# Altium integrated library Quartz crystals.IntLib: 46 symbols
Pins are listed as number, name and electrical type; pins without a type are passive.

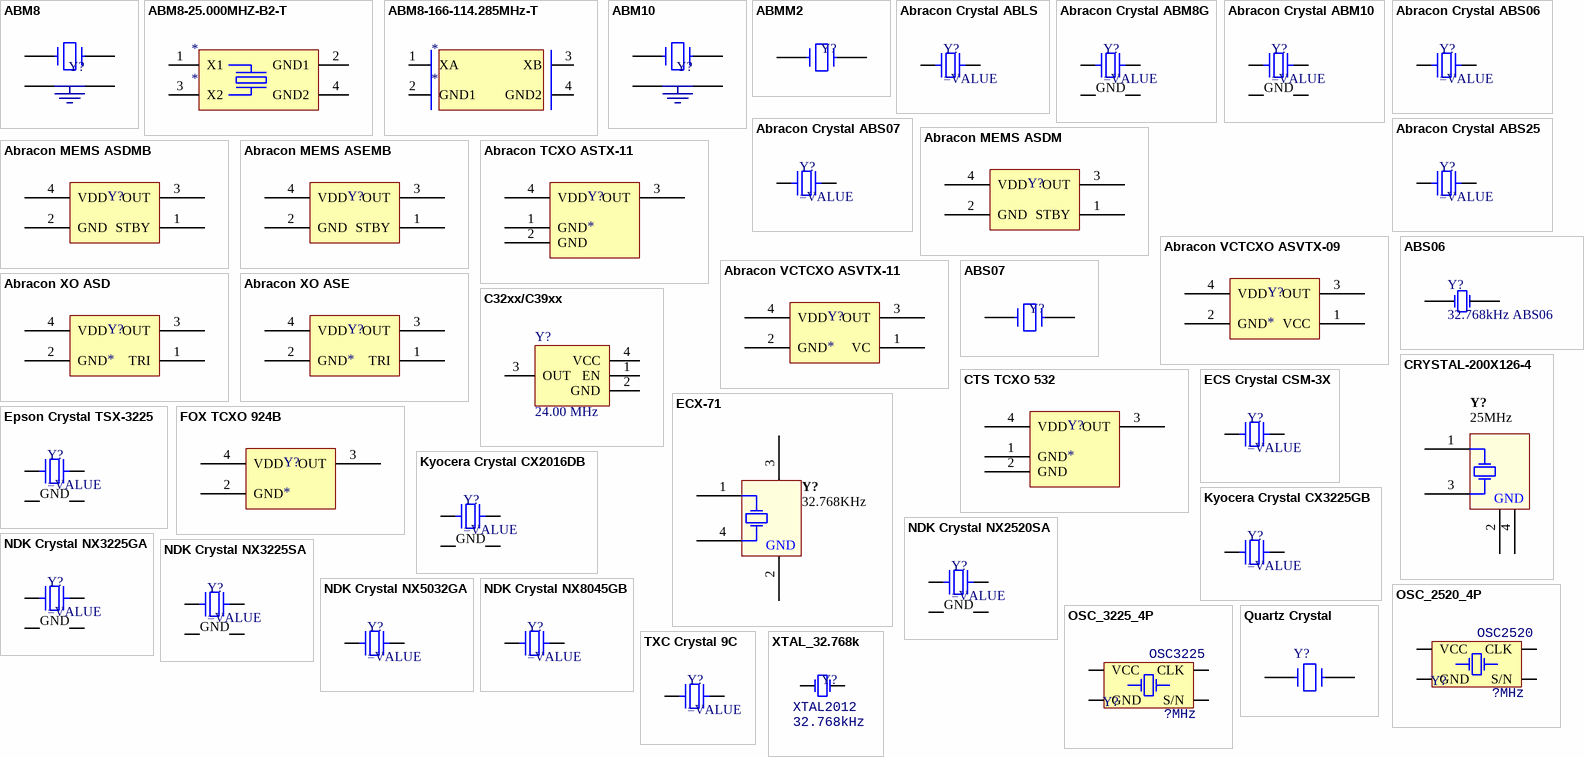
[diagram p0: symbols ABM8 to XTAL_32.768k]

## ABM8
designator Y?, comment 1MHz  (value not drawn)
SMD Quartz Crystal; Published: 28 April 2014; Created By: Zion Blue; Publisher: Cynetik Group; Nominal Fequency: 1MHz
footprint ABM8 (HC-49US XTAL)
pins: 1 "XT1", 2 (power) "GND", 3 "XT2", 4 (power) "GND"

## ABM8-25.000MHZ-B2-T
designator *
Supplier 1: Digi-Key; Supplier Part Number 1: 535-9140-2-ND
footprint ABM8_1
pins: 1 X1, 2 GND1, 3 X2, 4 GND2

## ABM8-166-114.285MHz-T
designator *
Supplier 1: Digi-Key; Supplier Part Number 1: 535-10306-2-ND
footprint CS_023_125X98 (ABM8-166-114.285MHZ-T)
pins: 1 XA, 2 GND1, 3 XB, 4 GND2

## ABM10
designator Y?, comment 1MHz  (value not drawn)
SMD Quartz Crystal; Published: 28 April 2014; Created By: Zion Blue; Publisher: Cynetik Group; Nominal Fequency: 1MHz
footprint ABM10 (2 x 2.5mm crystal)
pins: 1 "XT1", 2 (power) "GND", 3 "XT2", 4 (power) "GND"

## ABMM2
designator Y?, comment 1MHz  (value not drawn)
SMD Quartz Crystal; Published: 28 April 2014; Created By: Zion Blue; Publisher: Cynetik Group; Nominal Fequency: 1MHz
footprint ABMM2 (Ceramic Quartz Crystal oscilator - PIC32-T795 project)
pins: 1 "XT1", 2 "XT2"

## Abracon Crystal ABLS
designator Y?
SMT Crystal
pins: 1, 2

## Abracon Crystal ABM8G
designator Y?
SMT Crystal
pins: 1, 2 GND, 3, 4 GND

## Abracon Crystal ABM10
designator Y?
SMT Crystal
pins: 1, 2 GND, 3, 4 GND

## Abracon Crystal ABS06
designator Y?
SMT Crystal
pins: 1, 2

## Abracon Crystal ABS07
designator Y?
SMT Crystal
pins: 1, 2

## Abracon Crystal ABS25
designator Y?
SMT Crystal
pins: 1, 4

## Abracon MEMS ASDM
designator Y?
Pure Silicon Clock Oscillator
pins: 1 STBY, 2 GND, 3 OUT, 4 VDD

## Abracon MEMS ASDMB
designator Y?
Pure Silicon Clock Oscillator
pins: 1 STBY, 2 GND, 3 OUT, 4 VDD

## Abracon MEMS ASEMB
designator Y?
Pure Silicon Clock Oscillator
pins: 1 STBY, 2 GND, 3 OUT, 4 VDD

## Abracon TCXO ASTX-11
designator Y?
SMD CMOS Crystal Oscillator
pins: 1 GND, 2 GND, 3 OUT, 4 VDD

## Abracon VCTCXO ASVTX-09
designator Y?
SMD CMOS Crystal Oscillator
pins: 1 VCC, 2 GND, 3 OUT, 4 VDD

## Abracon VCTCXO ASVTX-11
designator Y?
SMD CMOS Crystal Oscillator
pins: 1 VC, 2 GND, 3 OUT, 4 VDD

## Abracon XO ASD
designator Y?
SMD CMOS Crystal Oscillator
pins: 1 TRI, 2 GND, 3 OUT, 4 VDD

## Abracon XO ASE
designator Y?
SMD CMOS Crystal Oscillator
pins: 1 TRI, 2 GND, 3 OUT, 4 VDD

## ABS06
designator Y?, comment 32.768kHz ABS06
footprint ABS06
pins: 1 OSC2, 2

## ABS07
designator Y?, comment 1MHz  (value not drawn)
SMD Quartz Crystal; Created By: Zion Blue; Published: 28 April 2014; Publisher: Cynetik Group; Nominal Fequency: 1MHz
footprint ABS07 (HC-49US XTAL)
pins: 1 "XT1", 2 "XT2"

## C32xx/C39xx
designator Y?, comment value 24.00 MHz  (hidden comment: Oscillator)
Manufacturer: Crystek; Manufacturer Part#: C3290-24.000; Alt. Manufacturer: Citizen; Alt. Manufacturer Part#: CSX750FCC24.000M-UT; Digi-Key#: C3290-24.000-ND; Alt. Digi-Key#: 300-7214-2-ND
footprint SMD_5x7
pins: 1 EN, 2 GND, 3 OUT, 4 VCC

## CRYSTAL-200X126-4
designator Y?, comment 25MHz
Crystal, SMD, 25.000000MHz Stab=50ppm 18.0pF; Frequency Stability: 50ppm; Load Capacitance: 18pF; Nominal Operational Voltage: mV; Frequency Tolerance: 50ppm; Mounting Technology: Surface Mount; Nominal Fequency: 25MHz; Status: Unreleased; Category: Crystal
footprint XTAL-200X126-4
pins: 1 X1, 2 GND, 3 X2, 4 GND

## CTS TCXO 532
designator Y?
SMD TCXO
pins: 1 GND, 2 GND, 3 OUT, 4 VDD

## ECS Crystal CSM-3X
designator Y?
SMT Crystal
pins: 1, 2

## ECX-71
designator Y?, comment 32.768KHz
Crystal, 32.768 KHz Surface Mount; Frequency Stability: 20ppm; Frequency Tolerance: ppm; Load Capacitance: 7pF; Nominal Operational Voltage: mV; Mounting Technology: Surface Mount; Nominal Fequency: 32.768KHz; Status: Production; Category: Crystal
footprint ECS-71
pins: 1 X1, 2 GND, 3 X2, 4 GND

## Epson Crystal TSX-3225
designator Y?
SMT Crystal
pins: 1, 2 GND, 3, 4 GND

## FOX TCXO 924B
designator Y?
SMD TCXO
pins: 2 GND, 3 OUT, 4 VDD

## Kyocera Crystal CX2016DB
designator Y?
SMT Crystal
pins: 1, 2 GND, 3, 4 GND

## Kyocera Crystal CX3225GB
designator Y?
SMT Crystal
pins: 1, 3

## NDK Crystal NX2520SA
designator Y?
SMT Crystal
footprint NDK NX2520SA (Crystal, 4-Leads, Body 2.00x2.50mm, Pitch 1.70mm, IPC Medium Density)
pins: 1, 2 GND, 3, 4 GND

## NDK Crystal NX3225GA
designator Y?
SMT Crystal
footprint NDK NX3225GA (Crystal, 4-Leads, Body 2.50x3.20mm, Pitch 2.20mm, IPC Medium Density)
pins: 1, 2 GND, 3, 4 GND

## NDK Crystal NX3225SA
designator Y?
SMT Crystal
footprint NDK NX3225SA (Crystal, 4-Leads, Body 2.50x3.20mm, Pitch 2.20mm, IPC Medium Density)
pins: 1, 2 GND, 3, 4 GND

## NDK Crystal NX5032GA
designator Y?
SMT Crystal
footprint NDK NX5032GA (Crystal, 2-Leads, Body 5.00x3.20mm, IPC Medium Density)
pins: 1, 2

## NDK Crystal NX8045GB
designator Y?
SMT Crystal
footprint NDK NX8045GB (Crystal, 2-Leads, Body 4.50x8.00mm, Pitch 6.50mm, IPC Medium Density)
pins: 1, 2

## OSC_2520_4P
designator Y?, comment value ?MHz  (hidden comment: OSC2520)
Crystal Oscillator; Type: OSC2520
footprint XT_2520_4
pins: 1 S/N, 2 GND, 3 CLK, 4 VCC

## OSC_3225_4P
designator Y?, comment value ?MHz  (hidden comment: OSC3225)
Crystal Oscillator; Type: OSC3225
footprint XT_3225_4
pins: 1 S/N, 2 GND, 3 CLK, 4 VCC

## Quartz Crystal
designator Y?, comment 4MHz  (value not drawn)
Quartz Crystal; Published: 8 April 2014; Created By: Zion Blue; Publisher: Cynetik Group; Nominal Fequency: 4MHz
footprint Cristal mini (Cristal de cuarzo empaque pequeño)
footprint Cristal  montaje (Cristal de cuarzo de montaje superficial)
footprint Cilindrical-H-SMD (Cilindrical canned XTAL, Horizontal, SMD)
footprint HC-49U (HC-49U XTAL)
footprint HC-49US (HC-49US XTAL)
footprint HC-49US - SMD (HC-49US XTAL)
pins: 1, 2

## TXC Crystal 9C
designator Y?
SMT Crystal
pins: 1, 2

## XTAL_32.768k
designator Y?, comment value 32.768kHz  (hidden comment: XTAL2012)
Crystal Oscillator; Type: XTAL2012
footprint XT_8038_4
footprint XT_3215_2
footprint XT_2012_2
pins: 1 OSC1, 2 OSC2

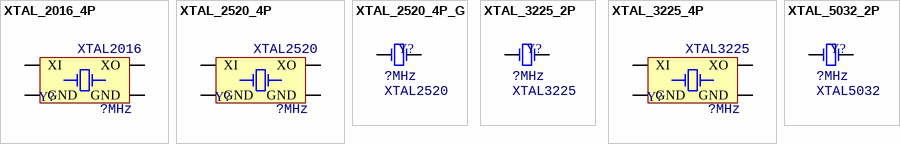
[diagram p1: symbols XTAL_2016_4P to XTAL_5032_2P]

## XTAL_2016_4P
designator Y?, comment value ?MHz  (hidden comment: XTAL2016)
Crystal Oscillator; Type: XTAL2016
footprint XT_2016_4
pins: 1 XI, 2 GND, 3 XO, 4 GND

## XTAL_2520_4P
designator Y?, comment value ?MHz  (hidden comment: XTAL2520)
Crystal Oscillator; Type: XTAL2520
footprint XT_2520_4
pins: 1 XI, 2 GND, 3 XO, 4 GND

## XTAL_2520_4P_G
designator Y?, comment value ?MHz  (hidden comment: XTAL2520)
Crystal Oscillator; Type: XTAL2520
footprint XT_2520_4
pins: 1 OSC1, 3 OSC2

## XTAL_3225_2P
designator Y?, comment value ?MHz  (hidden comment: XTAL3225)
Crystal Oscillator; Type: XTAL3225
footprint XT_3225_2
pins: 1 OSC1, 2 OSC2

## XTAL_3225_4P
designator Y?, comment value ?MHz  (hidden comment: XTAL3225)
Crystal Oscillator; Type: XTAL3225
footprint XT_3225_4
pins: 1 XI, 2 GND, 3 XO, 4 GND

## XTAL_5032_2P
designator Y?, comment value ?MHz  (hidden comment: XTAL5032)
Crystal Oscillator; Type: XTAL5032
footprint XT_5032_2
pins: 1 OSC1, 2 OSC2